# Altium schematic symbol library MIC5528-3.3YMX-T5.SchLib: 1 symbol
Pins are listed as number, name and electrical type; pins without a type are passive.

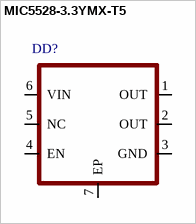
[diagram p0: symbol MIC5528-3.3YMX-T5]

## MIC5528-3.3YMX-T5
designator DD?
pins: 1 OUT, 2 OUT, 3 GND, 4 EN, 5 NC, 6 VIN, 7 EP